# EAGLE library part R-BUS-SIL-6 (library Skoba)
SIL RESISTOR
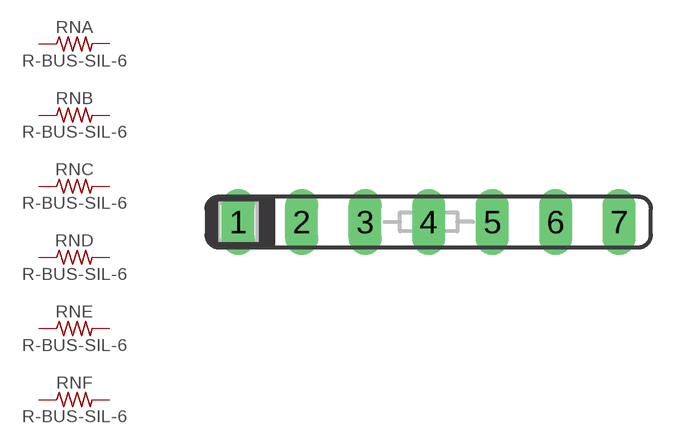
[diagram p16: symbol with the pads of SIL7; footprint SIL7]

Designator prefix RN; gates A=R-US B=R-US-1 C=R-US-1 D=R-US-1 E=R-US-1 F=R-US-1

## R-BUS-SIL-6  [SIL7]
1  A:2  pas
2  A:1  pas
3  B:1  pas
4  C:1  pas
5  D:1  pas
6  E:1  pas
7  F:1  pas

## Footprint SIL7 (pad centres in mm)
Single In Line
drill 0.813 long: 1 -7.62,0; 2 -5.08,0; 3 -2.54,0; 4 0,0; 5 2.54,0; 6 5.08,0; 7 7.62,0